# EAGLE library part APA102-2020 (library POVPARTS)
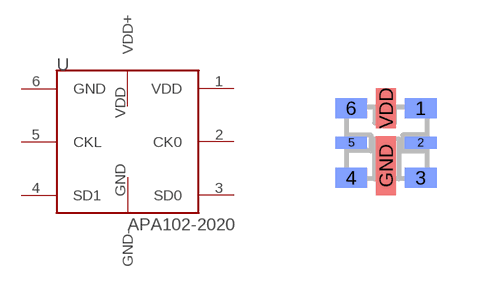
[diagram p0: symbol with the pads of APA102-2020; footprint APA102-2020]

Designator prefix -

## APA102-202020-20  [APA102-2020]
1  VDD
2  CK0
3  SD0
4  SD1
5  CKL
6  GND
GND  GND-
VDD  VDD+

## Footprint APA102-2020 (pad centres in mm)
smd 0.8 x 0.5 bottom: 1 -19.45,0.87; 3 -19.45,-0.87; 4 -21.19,-0.87; 6 -21.19,0.87
smd 0.8 x 0.3 bottom: 2 -19.45,0; 5 -21.19,0
smd 0.5 x 1.48: GND -20.32,-0.57
smd 0.5 x 1: VDD -20.32,0.87